# Altium footprint library connector_misc.PcbLib: 64 footprints (part 4 of 4)
Each footprint in its own frame and in the unit in brackets; x right, y up, seen from the top. Pads: shape width x height; smd on the part's side, far side on the other; paste and mask are expansions set on the pad; w line width, h text height; cw(c..) or ccw(c..) is an arc to the next point about the centre after c.
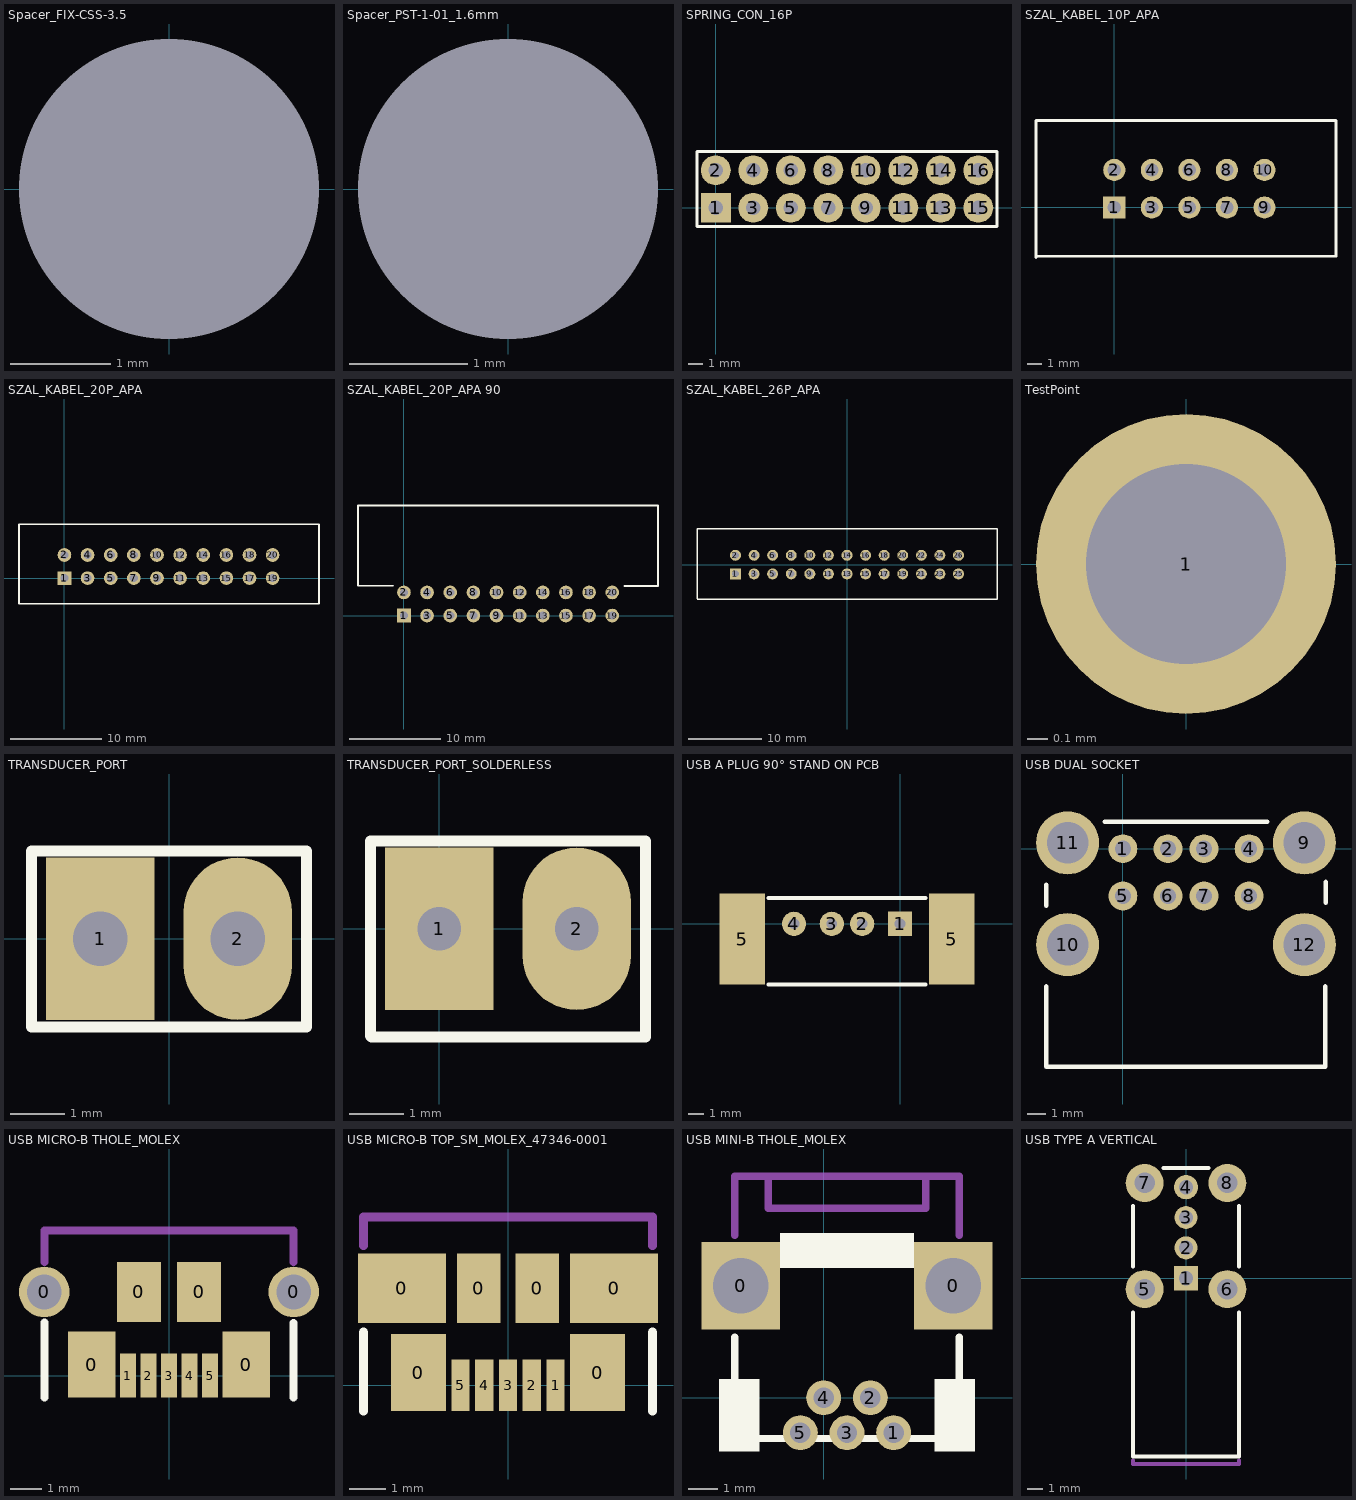
[diagram p3: the footprints below, top view; thin cyan lines are the x and y axes]

## Spacer_FIX-CSS-3.5 [mm] "Spacer FIX-CSS-3.5"
height 3.5
pads (1):
  round 0 hole 3: 1(0,0)
3D body: height 4.5, standoff -4.3, extent -7,-7 7,7

## Spacer_PST-1-01_1.6mm [mm] "Spacer PST-1-01"
height 1.6
pads (1):
  round 0 hole 2.54: 1(0,0)
3D body: height 1.6, standoff -3.71, extent -1.9,-1.9 1.9,1.9

## SPRING_CON_16P [mil]
pads (16):
  rect 80x80 hole 39.37: 1(0,0)
  round 80 hole 39.37: 2(0,100) 3(100,0) 4(100,100) 5(200,0) 6(200,100) 7(300,0) 8(300,100) 9(400,0) 10(400,100) 11(500,0) 12(500,100) 13(600,0) 14(600,100) 15(700,0) 16(700,100)
Top Overlay:
  lines w8: -50,-50 -50,150 750,150 750,-50 -50,-50
3D body: height 294.12, standoff -118.11, extent -48.81,-50.78 751.19,149.22

## SZAL_KABEL_10P_APA [mm]
pads (10):
  rect 1.5x1.5 hole 0.9: 1(0,0)
  round 1.5 hole 0.9: 2(0,2.54) 3(2.54,0) 4(2.54,2.54) 5(5.08,0) 6(5.08,2.54) 7(7.62,0) 8(7.62,2.54) 9(10.16,0) 10(10.16,2.54)
Top Overlay:
  lines w0.2: -5.3,-3.4 -5.3,5.9 3.025,5.9 15,5.9 15,-3.3 2.865,-3.3 -5.3,-3.3
3D body: height 8.84, standoff -3.3, extent -5.3,-3.3 15.06,5.9

## SZAL_KABEL_20P_APA [mm]
pads (20):
  rect 1.5x1.5 hole 0.9: 1(0,0)
  round 1.5 hole 0.9: 2(0,2.54) 3(2.54,0) 4(2.54,2.54) 5(5.08,0) 6(5.08,2.54) 7(7.62,0) 8(7.62,2.54) 9(10.16,0) 10(10.16,2.54) 11(12.7,0) 12(12.7,2.54) 13(15.24,0) 14(15.24,2.54) 15(17.78,0) 16(17.78,2.54) 17(20.32,0) 18(20.32,2.54) 19(22.86,0) 20(22.86,2.54)
Top Overlay:
  lines w0.2: -4.99,-2.81 -4.99,5.91 3.315,5.91 27.95,5.91 27.95,-2.81 3.555,-2.81 -4.99,-2.81
3D body: height 9, standoff -3.2, extent -4.876,-2.73 27.824,5.77

## SZAL_KABEL_20P_APA 90 [mm]
pads (20):
  rect 1.5x1.5 hole 0.9: 1(0,0)
  round 1.5 hole 0.9: 2(0,2.54) 3(2.54,0) 4(2.54,2.54) 5(5.08,0) 6(5.08,2.54) 7(7.62,0) 8(7.62,2.54) 9(10.16,0) 10(10.16,2.54) 11(12.7,0) 12(12.7,2.54) 13(15.24,0) 14(15.24,2.54) 15(17.78,0) 16(17.78,2.54) 17(20.32,0) 18(20.32,2.54) 19(22.86,0) 20(22.86,2.54)
Top Overlay:
  lines w0.2: -1.21,3.27 -5.04,3.27 -5.04,12.07 8.695,12.07 27.88,12.07 27.88,3.26 24.17,3.26
3D body: height 8.38, standoff -3.02, extent -4.93,-0.3 27.77,12.35

## SZAL_KABEL_26P_APA [mm]
pads (26):
  rect 1.5x1.5 hole 0.9: 1(-15.24,-1.27)
  round 1.5 hole 0.9: 2(-15.24,1.27) 3(-12.7,-1.27) 4(-12.7,1.27) 5(-10.16,-1.27) 6(-10.16,1.27) 7(-7.62,-1.27) 8(-7.62,1.27) 9(-5.08,-1.27) 10(-5.08,1.27) 11(-2.54,-1.27) 12(-2.54,1.27) 13(0,-1.27) 14(0,1.27) 15(2.54,-1.27) 16(2.54,1.27) 17(5.08,-1.27) 18(5.08,1.27) 19(7.62,-1.27) 20(7.62,1.27) 21(10.16,-1.27) 22(10.16,1.27) 23(12.7,-1.27) 24(12.7,1.27) 25(15.24,-1.27) 26(15.24,1.27)
Top Overlay:
  lines w0.2: -20.5,-4.77 -12.375,-4.77 20.5,-4.77 20.5,4.93 -12.215,4.93 -20.5,4.93 -20.5,-4.67
3D body: height 8.84, standoff -3.3, extent -20.34,-4.5 20.34,4.7

## TestPoint [mm] "TestPoint"
pads (1):
  round 1.5 hole 1: 1(0,0)

## TRANSDUCER_PORT [mm] "TRANSDUCER_PORT"
pads (2):
  rect 2x3 hole 1: 1(-1.27,0)
  oval 2x3 hole 1: 2(1.27,0)
Top Overlay:
  lines w0.203: -2.54,-1.63 -2.54,1.62 2.54,1.62 2.54,-1.63 -2.54,-1.63

## TRANSDUCER_PORT_SOLDERLESS [mm] "TRANSDUCER_PORT"
pads (2):
  rect 2x3 hole 0.8: 1(0,0)
  oval 2x3 hole 0.8: 2(2.54,0)
Top Overlay:
  lines w0.203: -1.27,-1.985 -1.255,-2 3.81,-2 3.81,1.62 -1.27,1.62 -1.27,-1.985

## USB A PLUG 90° STAND ON PCB [mm] "USB A PLUG 90° STAND ON PCB"
height 19
pads (6):
  rect 1.6x1.6 hole 0.7: 1(0,0)
  round 1.6 hole 0.7: 2(-2.5,0) 3(-4.5,0) 4(-7,0)
  rect 3x6 smd: 5(-10.4,-1) 5(3.4,-1)
Top Overlay:
  lines w0.254: -8.7,-4 1.7,-4 ; -8.7,1.7 1.7,1.7
3D body: height 18.5, standoff 0.17, extent -9.6,-2.8 2.4,1.7

## USB DUAL SOCKET [mm] "USB-A 4P FEMALE 90° H DUAL HORIZONTAL"
height 15.6
pads (12):
  round 1.6 hole 0.9: 1(0,0) 2(2.5,0) 3(4.5,0) 4(7,0) 5(0,-2.625) 6(2.5,-2.625) 7(4.5,-2.625) 8(7,-2.625)
  round 3.5 hole 2.3: 9(10.075,0.325) 10(-3.075,-5.325) 11(-3.075,0.325) 12(10.075,-5.325)
Top Overlay:
  lines w0.254: -4.25,-7.65 -4.25,-12.1 11.225,-12.1 11.225,-7.65 ; -4.25,-3.175 -4.25,-2 ; -1,1.5 8,1.5 ; 11.25,-3 11.25,-1.85
3D body: height 15.6, standoff -3.8, extent -4.35,-16.347 11.35,1.25

## USB MICRO-B THOLE_MOLEX [mm]
pads (11):
  round 1.6 hole 1.1: 0(-3.95,2.65) 0(3.95,2.65)
  rect 1.5x2.1 smd: 0(-2.45,0.35) 0(2.45,0.35)
  rect 1.4x1.9 smd: 0(-0.95,2.65) 0(0.95,2.65)
  rect 0.5x1.4 smd: 1(-1.3,0) 2(-0.65,0) 3(0,0) 4(0.65,0) 5(1.3,0)
Top Overlay:
  lines w0.254: -3.95,-0.7 -3.95,1.68 ; 3.95,-0.7 3.95,1.67
Mechanical 2:
  lines w0.254: -3.95,3.6 -3.95,4.6 3.94,4.6 ; 3.95,3.6 3.95,4.6
3D body: height 2.42, standoff -0.82, extent -4.1,-0.36 4.1,4.79

## USB MICRO-B TOP_SM_MOLEX_47346-0001 [mm] "Molex top side, smd, micro usb B."
pads (11):
  rect 2.4x1.9 smd: 0(-2.9,2.65) 0(2.9,2.655)
  rect 1.5x2.1 smd: 0(-2.45,0.35) 0(2.45,0.35)
  rect 1.2x1.9 smd: 0(-0.8,2.65) 0(0.8,2.65)
  rect 0.5x1.4 smd: 1(1.3,0) 2(0.65,0) 3(0,0) 4(-0.65,0) 5(-1.3,0)
Top Overlay:
  lines w0.254: -3.95,-0.7 -3.95,1.45 ; 3.95,-0.7 3.95,1.45
Mechanical 2:
  lines w0.254: -3.95,3.82 -3.95,4.6 3.94,4.6 ; 3.95,3.825 3.95,4.6
3D body: height 2.66, standoff -0.05, extent -3.94,-0.395 3.86,4.605

## USB MINI-B THOLE_MOLEX [mm]
pads (7):
  rect 2.7x3 hole 1.9: 0(-2.85,3.85) 0(4.45,3.85)
  round 1.2 hole 0.7: 1(2.4,-1.2) 2(1.6,0) 3(0.8,-1.2) 4(0,0) 5(-0.8,-1.2)
Top Overlay:
  rectangle: -3.6,-1.85 -2.2,0.65
  rectangle: 3.8,-1.85 5.2,0.65
  rectangle: -1.5,4.45 3.1,5.65
  lines w0.254: -3.05,2.07 -3.05,-1.4 4.65,-1.4 4.65,2.07 ; -3.05,3.15 -2.8,3.15 -2.8,4.55 -3.05,4.55 ; 4.65,3.15 4.45,3.15 4.45,4.55 4.65,4.55
Mechanical 2:
  lines w0.254: -3.05,5.58 -3.05,7.6 4.65,7.6 4.65,5.58 ; -1.9,7.6 -1.9,6.5 3.5,6.5 3.5,7.6
3D body: height 3.95, standoff -1.8, extent -3.05,-1.4 4.65,7.6

## USB TYPE A VERTICAL [mm]
height 14.5
pads (8):
  rect 1.6x1.6 hole 0.95: 1(0,0)
  round 1.524 hole 0.95: 2(0,2) 3(0,4)
  round 1.6 hole 0.95: 4(0,6)
  round 2.5 hole 1.35: 5(-2.725,-0.725) 6(2.725,-0.725) 7(-2.725,6.275) 8(2.725,6.275)
Top Overlay:
  lines w0.254: -3.5,-2.25 -3.5,-11.75 3.5,-11.75 3.5,-2.25 ; -3.5,0.75 -3.5,4.75 ; -1.5,7.25 1.5,7.25 ; 3.5,0.75 3.5,4.75
Mechanical 1:
  lines w0.254: -3.5,-12 -3.5,-12.25 3.5,-12.25 3.5,-12
3D body: height 14.49, standoff -3.8, extent -3.6,-12.425 3.6,6.825